# Altium schematic symbol library qiwirelesstransmitterschlib.SchLib: 30 symbols (part 2 of 2)
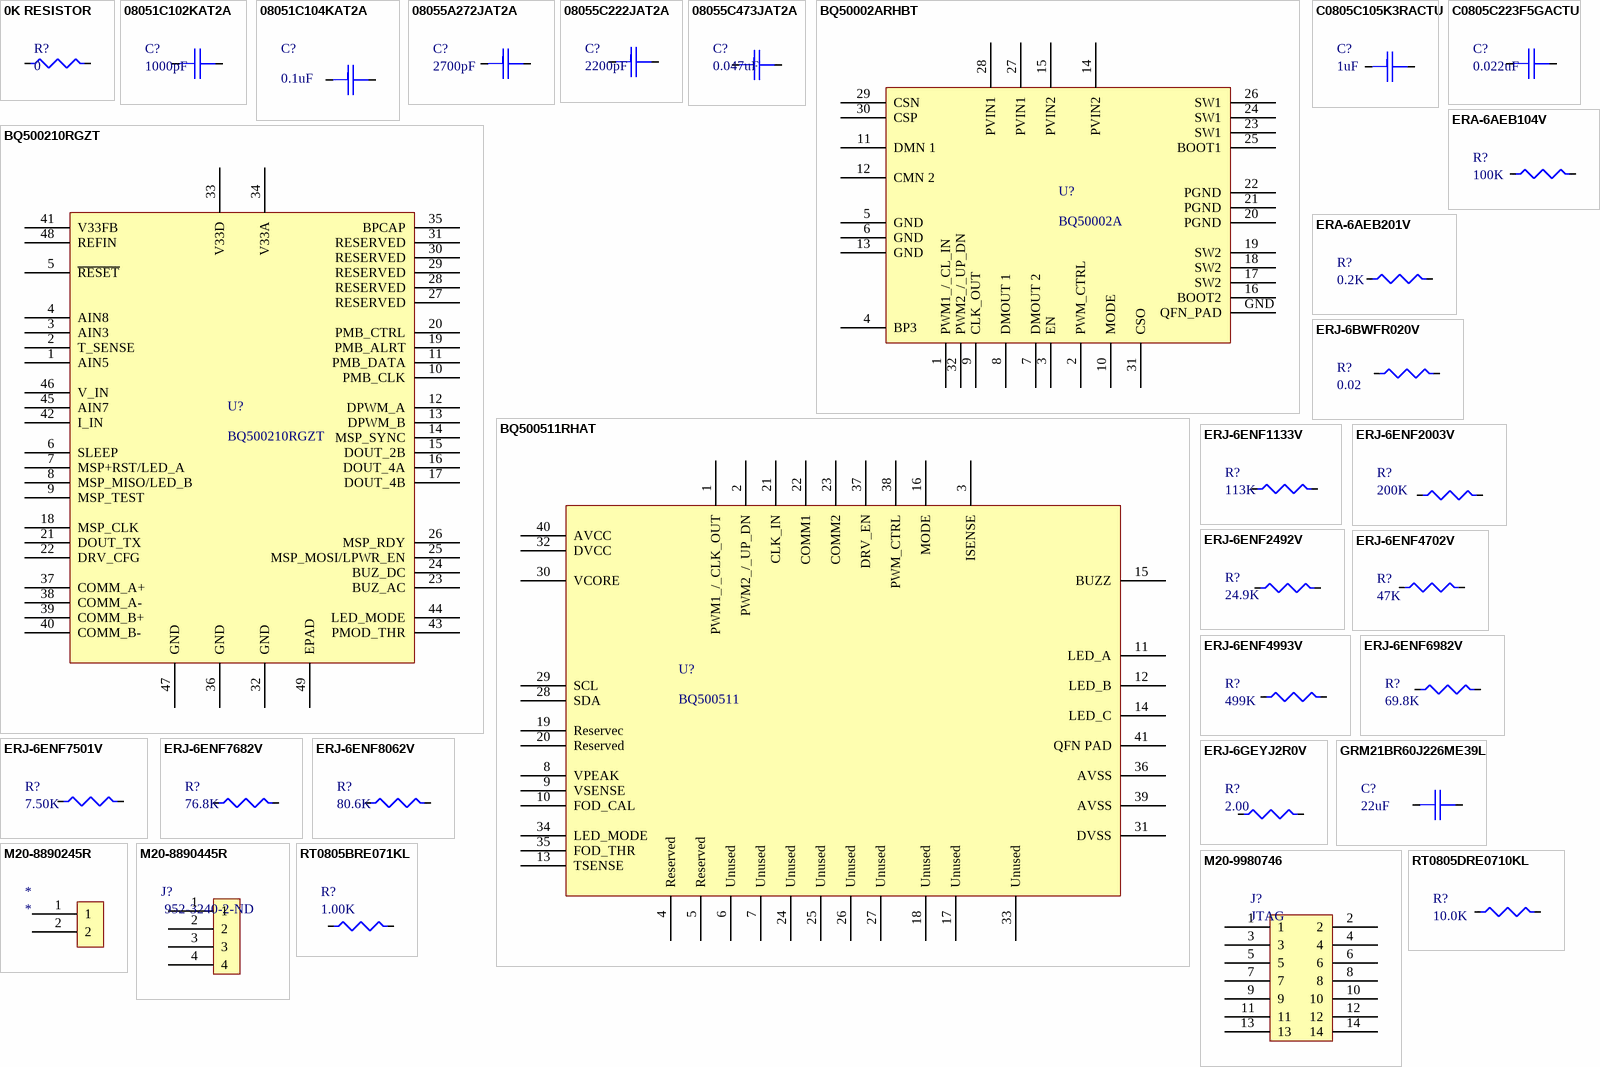
[diagram p1: symbols 0K RESISTOR to RT0805DRE0710KL]

## ERJ-6ENF6982V
designator R?, comment 69.8K
RES SMD 69.8K OHM 1% 1/8W 0805; Manufacturer: Panasonic; Manufacturer Part Number: ERJ-6ENF6982V; Resistance: 69.8kR; Temperature Coefficient: 100ppm/°C; Max Power Dissipation: 125mW; Voltage Rating: 150V; Supplier 1: Mouser; RoHS: Yes; Category: Chip SMD Resistors; Stock 1: 38537; Pricing 1: 1=0.10000, 10=0.08100, 100=0.03100, 1000=0.01100, 5000=0.00900, 10000=0.00800 (USD); Mount: Surface Mount; Case/Package: 0805; Case Code (Metric): 2012; Case Code (Imperial): 0805; Contact Plating: Tin; Min Operating Temperature: -55°C; Max Operating Temperature: 155°C; Packaging: Tape and Reel; Tolerance: 1%; Composition: Thick Film; Number of Terminations: 2; Package Quantity: 1; Power Rating: 125mW; Voltage Rating (DC): 150V; Termination: SMD/SMT; Features: Automotive AEC-Q200; Military Standard: Not; Length: 2mm; Height: 0.6mm; Width: 0.049inch; Depth: 1.25mm; Height - Seated (Max): 0.028inch; Radiation Hardening: No; Lead Free: Lead Free; REACH SVHC: Unknown; ComponentLink1URL: https://datasheet.ciiva.com/22682/1678782-22682501.pdf?src-supplier=Element14; ComponentLink1Description: https://datasheet.ciiva.com/22682/1678782-22682501.pdf?src-supplier=Element14; ComponentLink2URL: https://datasheet.ciiva.com/24027/aoa0000ce2-24027573.pdf?src-supplier=Mouser; ComponentLink2Description: https://datasheet.ciiva.com/24027/aoa0000ce2-24027573.pdf?src-supplier=Mouser; ComponentLink3URL: https://datasheet.ciiva.com/7937/aoa0000ce2-7937462.pdf?src-supplier=Element14; ComponentLink3Description: https://datasheet.ciiva.com/7937/aoa0000ce2-7937462.pdf?src-supplier=Element14; ComponentLink4URL: https://datasheet.ciiva.com/28592/1694929-28592344.pdf?src-supplier=Element14; ComponentLink4Description: https://datasheet.ciiva.com/28592/1694929-28592344.pdf?src-supplier=Element14; ComponentLink5URL: https://datasheet.ciiva.com/9187/aoa0000ce2-9187962.pdf?src-supplier=Avnet; ComponentLink5Description: https://datasheet.ciiva.com/9187/aoa0000ce2-9187962.pdf?src-supplier=Avnet; ComponentLink6URL: https://datasheet.ciiva.com/22730/1678782-22730040.pdf?src-supplier=Farnell; ComponentLink6Description: https://datasheet.ciiva.com/22730/1678782-22730040.pdf?src-supplier=Farnell; ComponentLink7URL: https://datasheet.ciiva.com/16789/70260748-16789163.pdf?src-supplier=Allied+Electronics; ComponentLink7Description: https://datasheet.ciiva.com/16789/70260748-16789163.pdf?src-supplier=Allied+Electronics; Supplier Part Number 1: 667-ERJ-6ENF6982V
footprint R0805 0.61H
pins: 84, 85

## ERJ-6ENF7501V
designator R?, comment 7.50K
RES SMD 7.5K OHM 1% 1/8W 0805; Manufacturer: Panasonic; Manufacturer Part Number: ERJ-6ENF7501V; Resistance: 7.5kR; Temperature Coefficient: 100ppm/°C; Max Power Dissipation: 125mW; Voltage Rating (DC): 150V; Supplier 1: Mouser; RoHS: Yes; Category: Chip SMD Resistors; Stock 1: 74848; Pricing 1: 1=0.10000, 10=0.08100, 100=0.03100, 1000=0.01100, 5000=0.00900, 10000=0.00800 (USD); Mount: Surface Mount; Case/Package: 0805; Case Code (Metric): 2012; Case Code (Imperial): 0805; Contact Plating: Tin; Min Operating Temperature: -55°C; Max Operating Temperature: 155°C; Tolerance: 1%; Packaging: Tape and Reel; Composition: Thick Film; Number of Terminations: 2; Military Standard: Not; Features: Automotive AEC-Q200; Package Quantity: 1; Power Rating: 125mW; Voltage Rating: 150V; Termination: SMD/SMT; Length: 2mm; Height: 0.6mm; Width: 0.049inch; Depth: 1.25mm; Radiation Hardening: No; Lead Free: Lead Free; REACH SVHC: Unknown; ComponentLink1URL: https://datasheet.ciiva.com/11821/0900766b80f80784-11821713.pdf?src-supplier=RSComponents; ComponentLink1Description: https://datasheet.ciiva.com/11821/0900766b80f80784-11821713.pdf?src-supplier=RSComponents; ComponentLink2URL: https://datasheet.ciiva.com/34303/1989527-34303643.pdf?src-supplier=Jameco; ComponentLink2Description: https://datasheet.ciiva.com/34303/1989527-34303643.pdf?src-supplier=Jameco; ComponentLink3URL: https://datasheet.ciiva.com/30143/aoa0000ce2-30143461.pdf?src-supplier=Onlinecomponents.com; ComponentLink3Description: https://datasheet.ciiva.com/30143/aoa0000ce2-30143461.pdf?src-supplier=Onlinecomponents.com; ComponentLink4URL: https://datasheet.ciiva.com/16782/70260748-16782856.pdf?src-supplier=Allied+Electronics; ComponentLink4Description: https://datasheet.ciiva.com/16782/70260748-16782856.pdf?src-supplier=Allied+Electronics; ComponentLink5URL: https://datasheet.ciiva.com/9194/aoa0000ce2-9194794.pdf?src-supplier=Avnet; ComponentLink5Description: https://datasheet.ciiva.com/9194/aoa0000ce2-9194794.pdf?src-supplier=Avnet; ComponentLink6URL: https://datasheet.ciiva.com/16780/70260748-16780490.pdf?src-supplier=Allied+Electronics; ComponentLink6Description: https://datasheet.ciiva.com/16780/70260748-16780490.pdf?src-supplier=Allied+Electronics; ComponentLink7URL: https://datasheet.ciiva.com/46373/426256-46373996.pdf?src-supplier=Element14; ComponentLink7Description: https://datasheet.ciiva.com/46373/426256-46373996.pdf?src-supplier=Element14; ComponentLink8URL: https://datasheet.ciiva.com/17212/aoa0000ce2-17212477.pdf?src-supplier=Avnet+Europe; ComponentLink8Description: https://datasheet.ciiva.com/17212/aoa0000ce2-17212477.pdf?src-supplier=Avnet+Europe; ComponentLink9URL: https://datasheet.ciiva.com/5868/426256-5868191.pdf?src-supplier=Farnell; ComponentLink9Description: https://datasheet.ciiva.com/5868/426256-5868191.pdf?src-supplier=Farnell; ComponentLink10URL: https://datasheet.ciiva.com/28675/1678782-28675837.pdf?src-supplier=Element14; ComponentLink10Description: https://datasheet.ciiva.com/28675/1678782-28675837.pdf?src-supplier=Element14; Supplier Part Number 1: 667-ERJ-6ENF7501V
footprint R0805 0.61H
pins: 84, 85

## ERJ-6ENF7682V
designator R?, comment 76.8K
RES SMD 76.8K OHM 1% 1/8W 0805; Manufacturer: Panasonic; Manufacturer Part Number: ERJ-6ENF7682V; Resistance: 76.8kR; Temperature Coefficient: 100ppm/°C; Max Power Dissipation: 125mW; Voltage Rating: 150V; Supplier 1: Mouser; RoHS: Yes; Category: Chip SMD Resistors; Stock 1: 24463; Pricing 1: 1=0.10000, 10=0.08100, 100=0.03100, 1000=0.01100, 5000=0.00900, 10000=0.00800 (USD); Mount: Surface Mount; Case/Package: 0805; Case Code (Metric): 2012; Case Code (Imperial): 0805; Contact Plating: Tin; Min Operating Temperature: -55°C; Max Operating Temperature: 155°C; Tolerance: 1%; Packaging: Tape and Reel; Composition: Thick Film; Number of Terminations: 2; Package Quantity: 1; Power Rating: 125mW; Termination: SMD/SMT; Voltage Rating (DC): 150V; Features: Automotive AEC-Q200; Military Standard: Not; Length: 2mm; Height: 0.028inch; Width: 0.049inch; Depth: 1.25mm; Lead Free: Lead Free; REACH SVHC: Yes; ComponentLink1URL: https://datasheet.ciiva.com/9187/aoa0000ce2-9187685.pdf?src-supplier=Avnet; ComponentLink1Description: https://datasheet.ciiva.com/9187/aoa0000ce2-9187685.pdf?src-supplier=Avnet; ComponentLink2URL: https://datasheet.ciiva.com/46437/1678782-46437845.pdf?src-supplier=Element14; ComponentLink2Description: https://datasheet.ciiva.com/46437/1678782-46437845.pdf?src-supplier=Element14; ComponentLink3URL: https://datasheet.ciiva.com/7937/aoa0000ce2-7937463.pdf?src-supplier=Element14; ComponentLink3Description: https://datasheet.ciiva.com/7937/aoa0000ce2-7937463.pdf?src-supplier=Element14; ComponentLink4URL: https://datasheet.ciiva.com/22682/1678782-22682503.pdf?src-supplier=Element14; ComponentLink4Description: https://datasheet.ciiva.com/22682/1678782-22682503.pdf?src-supplier=Element14; ComponentLink5URL: https://datasheet.ciiva.com/30106/aoa0000ce2-30106907.pdf?src-supplier=Onlinecomponents.com; ComponentLink5Description: https://datasheet.ciiva.com/30106/aoa0000ce2-30106907.pdf?src-supplier=Onlinecomponents.com; Supplier Part Number 1: 667-ERJ-6ENF7682V
footprint R0805 0.712H
pins: 84, 85

## ERJ-6ENF8062V
designator R?, comment 80.6K
RES SMD 80.6K OHM 1% 1/8W 0805; Manufacturer: Panasonic; Manufacturer Part Number: ERJ-6ENF8062V; Resistance: 80.6kR; Temperature Coefficient: 100ppm/°C; Max Power Dissipation: 125mW; Voltage Rating: 150V; Supplier 1: Mouser; RoHS: Yes; Category: Chip SMD Resistors; Stock 1: 57662; Pricing 1: 1=0.10000, 10=0.08100, 100=0.03100, 1000=0.01100, 5000=0.00900, 10000=0.00800 (USD); Mount: Surface Mount; Case/Package: 0805; Weight: 0.000194oz; Case Code (Metric): 2012; Case Code (Imperial): 0805; Contact Plating: Tin; Min Operating Temperature: -55°C; Max Operating Temperature: 155°C; Tolerance: 1%; Packaging: Tape and Reel; Composition: Thick Film; Package Quantity: 1; Number of Terminations: 2; Power Rating: 125mW; Voltage Rating (DC): 150V; Termination: SMD/SMT; Features: Automotive AEC-Q200; Military Standard: Not; Length: 2mm; Height: 0.6mm; Width: 0.049inch; Depth: 1.25mm; Radiation Hardening: No; Lead Free: Lead Free; REACH SVHC: Unknown; ComponentLink1URL: https://datasheet.ciiva.com/46381/1678782-46381526.pdf?src-supplier=Element14; ComponentLink1Description: https://datasheet.ciiva.com/46381/1678782-46381526.pdf?src-supplier=Element14; ComponentLink2URL: https://datasheet.ciiva.com/46381/1678782-46381527.pdf?src-supplier=Element14; ComponentLink2Description: https://datasheet.ciiva.com/46381/1678782-46381527.pdf?src-supplier=Element14; ComponentLink3URL: https://datasheet.ciiva.com/7937/aoa0000ce2-7937465.pdf?src-supplier=Element14; ComponentLink3Description: https://datasheet.ciiva.com/7937/aoa0000ce2-7937465.pdf?src-supplier=Element14; ComponentLink4URL: https://datasheet.ciiva.com/16776/70260748-16776585.pdf?src-supplier=Allied+Electronics; ComponentLink4Description: https://datasheet.ciiva.com/16776/70260748-16776585.pdf?src-supplier=Allied+Electronics; ComponentLink5URL: https://datasheet.ciiva.com/22721/1678782-22721337.pdf?src-supplier=Farnell; ComponentLink5Description: https://datasheet.ciiva.com/22721/1678782-22721337.pdf?src-supplier=Farnell; ComponentLink6URL: https://datasheet.ciiva.com/16771/70260748-16771706.pdf?src-supplier=Allied+Electronics; ComponentLink6Description: https://datasheet.ciiva.com/16771/70260748-16771706.pdf?src-supplier=Allied+Electronics; ComponentLink7URL: https://datasheet.ciiva.com/24161/aoa0000ce2-24161291.pdf?src-supplier=Mouser; ComponentLink7Description: https://datasheet.ciiva.com/24161/aoa0000ce2-24161291.pdf?src-supplier=Mouser; ComponentLink8URL: https://datasheet.ciiva.com/17208/aoa0000ce2-17208606.pdf?src-supplier=Avnet+Europe; ComponentLink8Description: https://datasheet.ciiva.com/17208/aoa0000ce2-17208606.pdf?src-supplier=Avnet+Europe; ComponentLink9URL: https://datasheet.ciiva.com/22672/1678782-22672894.pdf?src-supplier=Element14; ComponentLink9Description: https://datasheet.ciiva.com/22672/1678782-22672894.pdf?src-supplier=Element14; ComponentLink10URL: https://datasheet.ciiva.com/9117/aoa0000ce2-9117343.pdf?src-supplier=Avnet; ComponentLink10Description: https://datasheet.ciiva.com/9117/aoa0000ce2-9117343.pdf?src-supplier=Avnet; ComponentLink11URL: https://datasheet.ciiva.com/28540/1694929-28540783.pdf?src-supplier=Element14; ComponentLink11Description: https://datasheet.ciiva.com/28540/1694929-28540783.pdf?src-supplier=Element14; Supplier Part Number 1: 667-ERJ-6ENF8062V
footprint R0805 0.61H
pins: 84, 85

## ERJ-6GEYJ2R0V
designator R?, comment 2.00
RES SMD 2 OHM 5% 1/8W 0805; Manufacturer: Panasonic; Manufacturer Part Number: ERJ-6GEYJ2R0V; Resistance: 2R; Power Rating: 125mW; Temperature Coefficient: 600ppm/°C; Voltage Rating: 150V; Supplier 1: Mouser; RoHS: Yes; Category: Chip SMD Resistors; Stock 1: 53816; Pricing 1: 1=0.10000, 10=0.06100, 100=0.02400, 1000=0.00900, 5000=0.00700, 10000=0.00600 (USD); Mount: Surface Mount; Case/Package: 0805; Case Code (Metric): 2012; Case Code (Imperial): 0805; Contact Plating: Tin; Min Operating Temperature: -55°C; Max Operating Temperature: 155°C; Tolerance: 5%; Packaging: Tape and Reel; Composition: Thick Film; Termination: SMD/SMT; Package Quantity: 5000; Military Standard: Not; Number of Terminations: 2; Max Power Dissipation: 125mW; Voltage Rating (DC): 150V; Length: 2mm; Height: 0.6mm; Width: 0.049inch; Depth: 1.25mm; Lead Free: Lead Free; REACH SVHC: No SVHC; ComponentLink1URL: https://datasheet.ciiva.com/16764/70255313-16764134.pdf?src-supplier=Allied+Electronics; ComponentLink1Description: https://datasheet.ciiva.com/16764/70255313-16764134.pdf?src-supplier=Allied+Electronics; ComponentLink2URL: https://datasheet.ciiva.com/43469/1678796-43469637.pdf?src-supplier=Farnell; ComponentLink2Description: https://datasheet.ciiva.com/43469/1678796-43469637.pdf?src-supplier=Farnell; Supplier Part Number 1: 667-ERJ-6GEYJ2R0V
footprint R0805 0.61H
pins: 84, 85

## GRM21BR60J226ME39L
designator C?, comment 22uF
MURATA         GRM21BR60J226ME39L            MLCC CAPACITOR, 22UF, 6.3V, X5R, 20%, 0805, FULL REEL; Material: Ceramic; Supplier 1: Mouser; Manufacturer: Murata; Manufacturer Part Number: GRM21BR60J226ME39L; RoHS: Yes; Category: Ceramic Capacitors; Stock 1: 1532958; Pricing 1: 1=0.29000, 10=0.28900, 100=0.20300, 500=0.15600, 1000=0.13300, 3000=0.09900 (USD); Mount: Surface Mount; Case/Package: 0805; Case Code (Metric): 2012; Case Code (Imperial): 0805; Min Operating Temperature: -55°C; Max Operating Temperature: 85°C; Capacitance: 22uF; Tolerance: 20%; Packaging: Tape and Reel; Voltage Rating: 6.3V; Voltage Rating (DC): 6.3V; Termination: SMD/SMT; Package Quantity: 1; Voltage: 6.3V; Dielectric: X5R; Length: 2mm; Height: 1.25mm; Width: 0.049inch; Depth: 1.25mm; Thickness: 0.053inch; Radiation Hardening: No; REACH SVHC: No SVHC; Lead Free: Lead Free; ComponentLink1URL: https://datasheet.ciiva.com/16543/product-16543520.pdf?src-supplier=Avnet+Asia; ComponentLink1Description: https://datasheet.ciiva.com/16543/product-16543520.pdf?src-supplier=Avnet+Asia; ComponentLink2URL: https://datasheet.ciiva.com/28685/415298-28685393.pdf?src-supplier=Element14; ComponentLink2Description: https://datasheet.ciiva.com/28685/415298-28685393.pdf?src-supplier=Element14; ComponentLink3URL: https://datasheet.ciiva.com/3777/162grm21br60j226me3923-3777075.pdf?src-supplier=Arrow; ComponentLink3Description: https://datasheet.ciiva.com/3777/162grm21br60j226me3923-3777075.pdf?src-supplier=Arrow; ComponentLink4URL: https://datasheet.ciiva.com/34302/1858877-34302872.pdf?src-supplier=Jameco; ComponentLink4Description: https://datasheet.ciiva.com/34302/1858877-34302872.pdf?src-supplier=Jameco; ComponentLink5URL: https://datasheet.ciiva.com/29199/454561-da-01-en-vs-kondensator-0805-29199600.pdf?src-supplier=Conrad; ComponentLink5Description: https://datasheet.ciiva.com/29199/454561-da-01-en-vs-kondensator-0805-29199600.pdf?src-supplier=Conrad; ComponentLink6URL: https://datasheet.ciiva.com/29202/450907-da-01-de-vs-chip-kond-0805-22-0-uf-20pr-6-3v-x5r-29202711.pdf?src-supplier=Conrad; ComponentLink6Description: https://datasheet.ciiva.com/29202/450907-da-01-de-vs-chip-kond-0805-22-0-uf-20pr-6-3v-x5r-29202711.pdf?src-supplier=Conrad; ComponentLink7URL: https://datasheet.ciiva.com/137/partnumbering-e-01-137971.pdf?src-supplier=Digi-Key; ComponentLink7Description: https://datasheet.ciiva.com/137/partnumbering-e-01-137971.pdf?src-supplier=Digi-Key; ComponentLink8URL: https://datasheet.ciiva.com/137/partnumbering-e-01-137972.pdf?src-supplier=Digi-Key; ComponentLink8Description: https://datasheet.ciiva.com/137/partnumbering-e-01-137972.pdf?src-supplier=Digi-Key; ComponentLink9URL: https://datasheet.ciiva.com/137/partnumbering-e-01-137973.pdf?src-supplier=Digi-Key; ComponentLink9Description: https://datasheet.ciiva.com/137/partnumbering-e-01-137973.pdf?src-supplier=Digi-Key; ComponentLink10URL: https://datasheet.ciiva.com/2989/product-2989692.pdf?src-supplier=Avnet; ComponentLink10Description: https://datasheet.ciiva.com/2989/product-2989692.pdf?src-supplier=Avnet; ComponentLink11URL: https://datasheet.ciiva.com/7719/1747467-7719085.pdf?src-supplier=Element14; ComponentLink11Description: https://datasheet.ciiva.com/7719/1747467-7719085.pdf?src-supplier=Element14; ComponentLink12URL: https://datasheet.ciiva.com/7719/1747467-7719086.pdf?src-supplier=Element14; ComponentLink12Description: https://datasheet.ciiva.com/7719/1747467-7719086.pdf?src-supplier=Element14; ComponentLink13URL: https://datasheet.ciiva.com/14116/grmseries-highdielectrictype-eng-14116430.pdf?src-supplier=Distrelec; ComponentLink13Description: https://datasheet.ciiva.com/14116/grmseries-highdielectrictype-eng-14116430.pdf?src-supplier=Distrelec; Supplier Part Number 1: 81-GRM21R60J226ME39L
footprint C0805 1.35H
pins: 1, 2

## M20-8890245R
designator *
CONN HEADER SMD R/A 2POS 2.54MM; Manufacturer: Harwin; Manufacturer Part Number: M20-8890245R; Supplier 1: Mouser; RoHS: No; Category: Connectors; Stock 1: 882; Pricing 1: 1=0.53000, 10=0.42900, 100=0.38700, 250=0.35300, 500=0.33600, 1000=0.27800 (USD); ComponentLink1URL: https://cdn.harwin.com/pdfs/M20-889.pdf?src-supplier=Digi-Key; ComponentLink1Description: https://cdn.harwin.com/pdfs/M20-889.pdf?src-supplier=Digi-Key; Supplier Part Number 1: 855-M20-8890245R
footprint J 1x2
pins: 1, 2

## M20-8890445R
designator J?, comment 952-3240-2-ND
CONN HDR SNGL 2.54MM R/A 4POS; Manufacturer: Harwin; Manufacturer Part Number: M20-8890445R; Supplier 1: Mouser; RoHS: No; Stock 1: 1390; Pricing 1: 1=0.70000, 10=0.52800, 100=0.46200, 500=0.44000, 1000=0.35200, 2500=0.33000 (USD); ComponentLink1URL: https://cdn.harwin.com/pdfs/Harwin_PC_Connectors_M20.pdf?src-supplier=Digi-Key; ComponentLink1Description: https://cdn.harwin.com/pdfs/Harwin_PC_Connectors_M20.pdf?src-supplier=Digi-Key; Supplier Part Number 1: 855-M20-8890445R
footprint J 1x4
pins: 1, 2, 3, 4

## M20-9980746
designator J?, comment JTAG
2.54mm (0.1") Pitch DIL Vertical PC Tail Pin Header, 6.1mm mating pin height, tin, 7+7 contacts; Manufacturer: Harwin; Manufacturer Part Number: M20-9980746; Max Current Rating: 3A; Contact Resistance: 25mR; Number of Positions: 14; Connector Type: Male Pin; Row Spacing: 0.1inch; Supplier 1: Mouser; RoHS: Yes; Category: Headers and Wire Housings; Stock 1: 1432; Pricing 1: 1=0.46000, 10=0.36000, 100=0.32500, 250=0.29700, 500=0.28200, 1000=0.23300 (USD); Mount: Through Hole; Contact Material: Brass; Color: Black; Housing Color: Black; Housing Material: Nylon; Contact Plating: Tin; Min Operating Temperature: -40°C; Max Operating Temperature: 105°C; Number of Rows: 2; Packaging: Bag; Termination: Solder; Number of Contacts: 14; Orientation: Straight; Package Quantity: 500; Length: 17.78mm; Pitch: 2.54mm; Depth: 5.08mm; Contact Mating Length: 0.24inch; Radiation Hardening: No; ComponentLink1URL: https://datasheet.ciiva.com/26925/getdatasheetpartid-500137-26925076.pdf?src-supplier=Verical; ComponentLink1Description: https://datasheet.ciiva.com/26925/getdatasheetpartid-500137-26925076.pdf?src-supplier=Verical; Supplier Part Number 1: 855-M20-9980746
footprint JTAG
pins: 1, 2, 3, 4, 5, 6, 7, 8, 9, 10, 11, 12, 13, 14

## RT0805BRE071KL
designator R?, comment 1.00K
Res Thin Film 0805 1K Ohm 0.1% 0.125W(1/8W) ±50ppm/C Molded SMD Paper T/R; Manufacturer: Yageo; Manufacturer Part Number: RT0805BRE071KL; Resistance: 1kR; Temperature Coefficient: 50ppm/°C; Power Rating: 125mW; Voltage Rating (DC): 150V; Supplier 1: Mouser; RoHS: Yes; Category: Chip SMD Resistors; Stock 1: 2152; Pricing 1: 1=0.54000, 10=0.31400, 100=0.12500, 1000=0.08900, 5000=0.07300, 10000=0.07100 (USD); Case/Package: 0805; Contact Plating: Tin,Matte; Case Code (Metric): 2012; Case Code (Imperial): 0805; Min Operating Temperature: -55°C; Max Operating Temperature: 125°C; Tolerance: 0.1%; Packaging: Tape and Reel; Composition: Thin Film; Number of Terminations: 2; Package Quantity: 5000; Max Power Dissipation: 125mW; Military Standard: Not; Features: Moisture Resistant; Length: 0.079inch; Height: 0.024inch; Width: 0.049inch; Depth: 1.25mm; Radiation Hardening: No; Lead Free: Lead Free; ComponentLink1URL: http://components.arrow.com/part/dataview/0323_00047443?src-supplier=Arrow+Europe; ComponentLink1Description: http://components.arrow.com/part/dataview/0323_00047443?src-supplier=Arrow+Europe; ComponentLink2URL: http://www.yageo.com/documents/recent/PYu-RT_1-to-0.01_RoHS_L_7.pdf?src-supplier=Digi-Key; ComponentLink2Description: http://www.yageo.com/documents/recent/PYu-RT_1-to-0.01_RoHS_L_7.pdf?src-supplier=Digi-Key; ComponentLink3URL: http://www.yageo.com/documents/recent/PYu-RT_1-to-0.05_RoHS_L_6.pdf?src-supplier=Avnet; ComponentLink3Description: http://www.yageo.com/documents/recent/PYu-RT_1-to-0.05_RoHS_L_6.pdf?src-supplier=Avnet; ComponentLink4URL: http://www.yageo.com/documents/recent/PYu-RT_1-to-0.05_RoHS_L_(4).pdf?src-supplier=Avnet+Europe; ComponentLink4Description: http://www.yageo.com/documents/recent/PYu-RT_1-to-0.05_RoHS_L_(4).pdf?src-supplier=Avnet+Europe; ComponentLink5URL: http://www.yageo.com/documents/recent/PYu-RT_1-to-0.05_RoHS_L_(4).pdf?src-supplier=Future+Electronics; ComponentLink5Description: http://www.yageo.com/documents/recent/PYu-RT_1-to-0.05_RoHS_L_(4).pdf?src-supplier=Future+Electronics; ComponentLink6URL: http://www.yageo.com/documents/recent/PYu-RT_1-to-0.01_RoHS_L_9.pdf?src-supplier=Digi-Key; ComponentLink6Description: http://www.yageo.com/documents/recent/PYu-RT_1-to-0.01_RoHS_L_9.pdf?src-supplier=Digi-Key; Supplier Part Number 1: 603-RT0805BRE071KL
footprint R0805 0.61H
pins: 84, 85

## RT0805DRE0710KL
designator R?, comment 10.0K
Res Thin Film 0805 10K Ohm 0.5% 1/8W ±50ppm/°C Molded SMD Paper T/R; Manufacturer: Yageo; Manufacturer Part Number: RT0805DRE0710KL; Resistance: 10kR; Max Power Dissipation: 125mW; Voltage Rating: 150V; Supplier 1: Mouser; RoHS: Yes; Category: Chip SMD Resistors; Stock 1: 2312; Pricing 1: 1=0.17000, 10=0.08800, 100=0.03100, 1000=0.02200, 5000=0.01500, 10000=0.01400 (USD); Case/Package: 0805; Weight: 0.000194oz; Case Code (Imperial): 0805; Case Code (Metric): 2012; Min Operating Temperature: -55°C; Max Operating Temperature: 125°C; Packaging: Tape and Reel; Tolerance: 0.5%; Composition: Thin Film; Number of Terminations: 2; Temperature Coefficient: 50ppm/°C; Package Quantity: 5000; Military Standard: Not; Power Rating: 125mW; Termination: SMD/SMT; Voltage Rating (DC): 150V; Features: Moisture Resistant; Length: 2mm; Height: 0.024inch; Width: 1.25mm; Depth: 1.25mm; Lead Free: Lead Free; ComponentLink1URL: http://www.mouser.com/ds/2/447/yageodocoutput-1125656.pdf?src-supplier=Mouser; ComponentLink1Description: http://www.mouser.com/ds/2/447/yageodocoutput-1125656.pdf?src-supplier=Mouser; ComponentLink2URL: http://components.arrow.com/part/dataview/0323_03305301?src-supplier=Arrow+Europe; ComponentLink2Description: http://components.arrow.com/part/dataview/0323_03305301?src-supplier=Arrow+Europe; ComponentLink3URL: http://www.yageo.com/documents/recent/PYu-RT_1-to-0.01_RoHS_L_9.pdf?src-supplier=Digi-Key; ComponentLink3Description: http://www.yageo.com/documents/recent/PYu-RT_1-to-0.01_RoHS_L_9.pdf?src-supplier=Digi-Key; ComponentLink4URL: http://www.yageo.com/documents/recent/PYu-RT_1-to-0.05_RoHS_L_(4).pdf?src-supplier=Future+Electronics; ComponentLink4Description: http://www.yageo.com/documents/recent/PYu-RT_1-to-0.05_RoHS_L_(4).pdf?src-supplier=Future+Electronics; Supplier Part Number 1: 603-RT0805DRE0710KL
footprint R0805 0.61H
pins: 84, 85